# EAGLE library part AD5684ARUZ (library AD5684ARUZ)
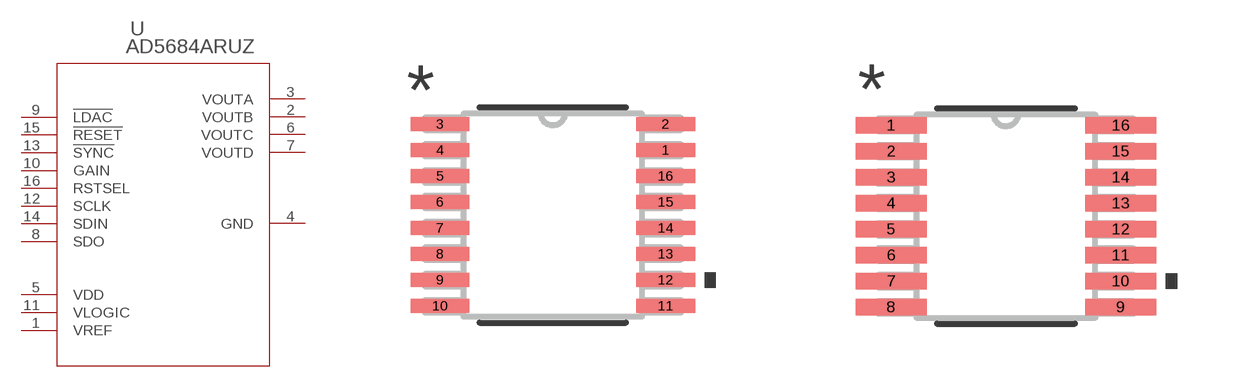
[diagram p0: symbol with the pads of RU_16; footprints RU_16, RU_16-M]

Designator prefix U

## AD5684ARUZ  [RU_16]
1  VREF  pas
2  VOUTB  pas
3  VOUTA  pas
4  GND  pas
5  VDD  pas
6  VOUTC  pas
7  VOUTD  pas
8  SDO  pas
9  !LDAC  pas
10  GAIN  pas
11  VLOGIC  pas
12  SCLK  pas
13  !SYNC  pas
14  SDIN  pas
15  !RESET  pas
16  RSTSEL  pas

## AD5684ARUZRU_16-M  [RU_16-M]
Pads as for RU_16

## AD5684ARUZRU_16-L  [RU_16-L]
Pads as for RU_16

## Footprint RU_16 (pad centres in mm)
smd 1.473 x 0.356: 1 2.819,1.625; 2 2.819,2.275; 3 -2.819,2.275; 4 -2.819,1.625; 5 -2.819,0.975; 6 -2.819,0.325; 7 -2.819,-0.325; 8 -2.819,-0.975; 9 -2.819,-1.625; 10 -2.819,-2.275; 11 2.819,-2.275; 12 2.819,-1.625; 13 2.819,-0.975; 14 2.819,-0.325; 15 2.819,0.325; 16 2.819,0.975

## Footprint RU_16-M (pad centres in mm)
smd 1.778 x 0.406: 1 -2.87,2.275; 2 -2.87,1.625; 3 -2.87,0.975; 4 -2.87,0.325; 5 -2.87,-0.325; 6 -2.87,-0.975; 7 -2.87,-1.625; 8 -2.87,-2.275; 9 2.87,-2.275; 10 2.87,-1.625; 11 2.87,-0.975; 12 2.87,-0.325; 13 2.87,0.325; 14 2.87,0.975; 15 2.87,1.625; 16 2.87,2.275

## Footprint RU_16-L (pad centres in mm)
smd 1.168 x 0.305: 1 -2.769,2.275; 2 -2.769,1.625; 3 -2.769,0.975; 4 -2.769,0.325; 5 -2.769,-0.325; 6 -2.769,-0.975; 7 -2.769,-1.625; 8 -2.769,-2.275; 9 2.769,-2.275; 10 2.769,-1.625; 11 2.769,-0.975; 12 2.769,-0.325; 13 2.769,0.325; 14 2.769,0.975; 15 2.769,1.625; 16 2.769,2.275